# EAGLE library part FT260 (library poi)
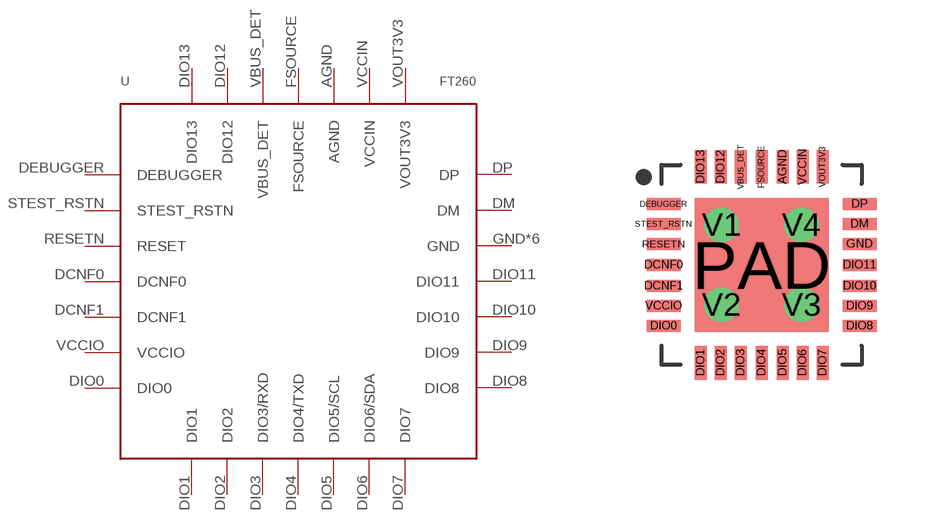
[diagram p1: symbol with the pads of WQFN-28; footprint WQFN-28]

Designator prefix -

## FT260 (MF: FTDI; MPN: FT260Q-T; OC_FARNELL: 2664512)  [WQFN-28]
AGND  AGND
DCNF0  DCNF0
DCNF1  DCNF1
DEBUGGER  DEBUGGER
DIO0  DIO0
DIO1  DIO1
DIO2  DIO2
DIO3  DIO3/RXD
DIO4  DIO4/TXD
DIO5  DIO5/SCL
DIO6  DIO6/SDA
DIO7  DIO7
DIO8  DIO8
DIO9  DIO9
DIO10  DIO10
DIO11  DIO11
DIO12  DIO12
DIO13  DIO13
DM  DM
DP  DP
FSOURCE  FSOURCE
GND  GND
PAD  GND
RESETN  RESET
STEST_RSTN  STEST_RSTN
V1  GND
V2  GND
V3  GND
V4  GND
VBUS_DET  VBUS_DET
VCCIN  VCCIN
VCCIO  VCCIO
VOUT3V3  VOUT3V3

## Footprint WQFN-28 (pad centres in mm)
smd 0.3 x 0.85: AGND 0.525,2.45; DIO1 -1.525,-2.45; DIO2 -1.025,-2.45; DIO3 -0.525,-2.45; DIO4 0,-2.45; DIO5 0.525,-2.45; DIO6 1.025,-2.45; DIO7 1.525,-2.45; DIO12 -1.025,2.45; DIO13 -1.525,2.45; FSOURCE 0,2.45; VBUS_DET -0.525,2.45; VCCIN 1.025,2.45; VOUT3V3 1.525,2.45
smd 0.85 x 0.3: DCNF0 -2.45,0; DCNF1 -2.45,-0.525; DEBUGGER -2.45,1.525; DIO0 -2.45,-1.525; DIO8 2.45,-1.525; DIO9 2.45,-1.025; DIO10 2.45,-0.525; DIO11 2.45,0; DM 2.45,1.025; DP 2.45,1.525; GND 2.45,0.525; RESETN -2.45,0.525; STEST_RSTN -2.45,1.025; VCCIO -2.45,-1.025
smd 3.35 x 3.35: PAD 0,0
drill 0.35 pad 0.75: V1 -1,1; V2 -1,-1; V3 1,-1; V4 1,1